# Altium schematic symbol library kmilo17pet-TI_LDO_400_7500.SchLib: 1409 symbols (part 8 of 60)
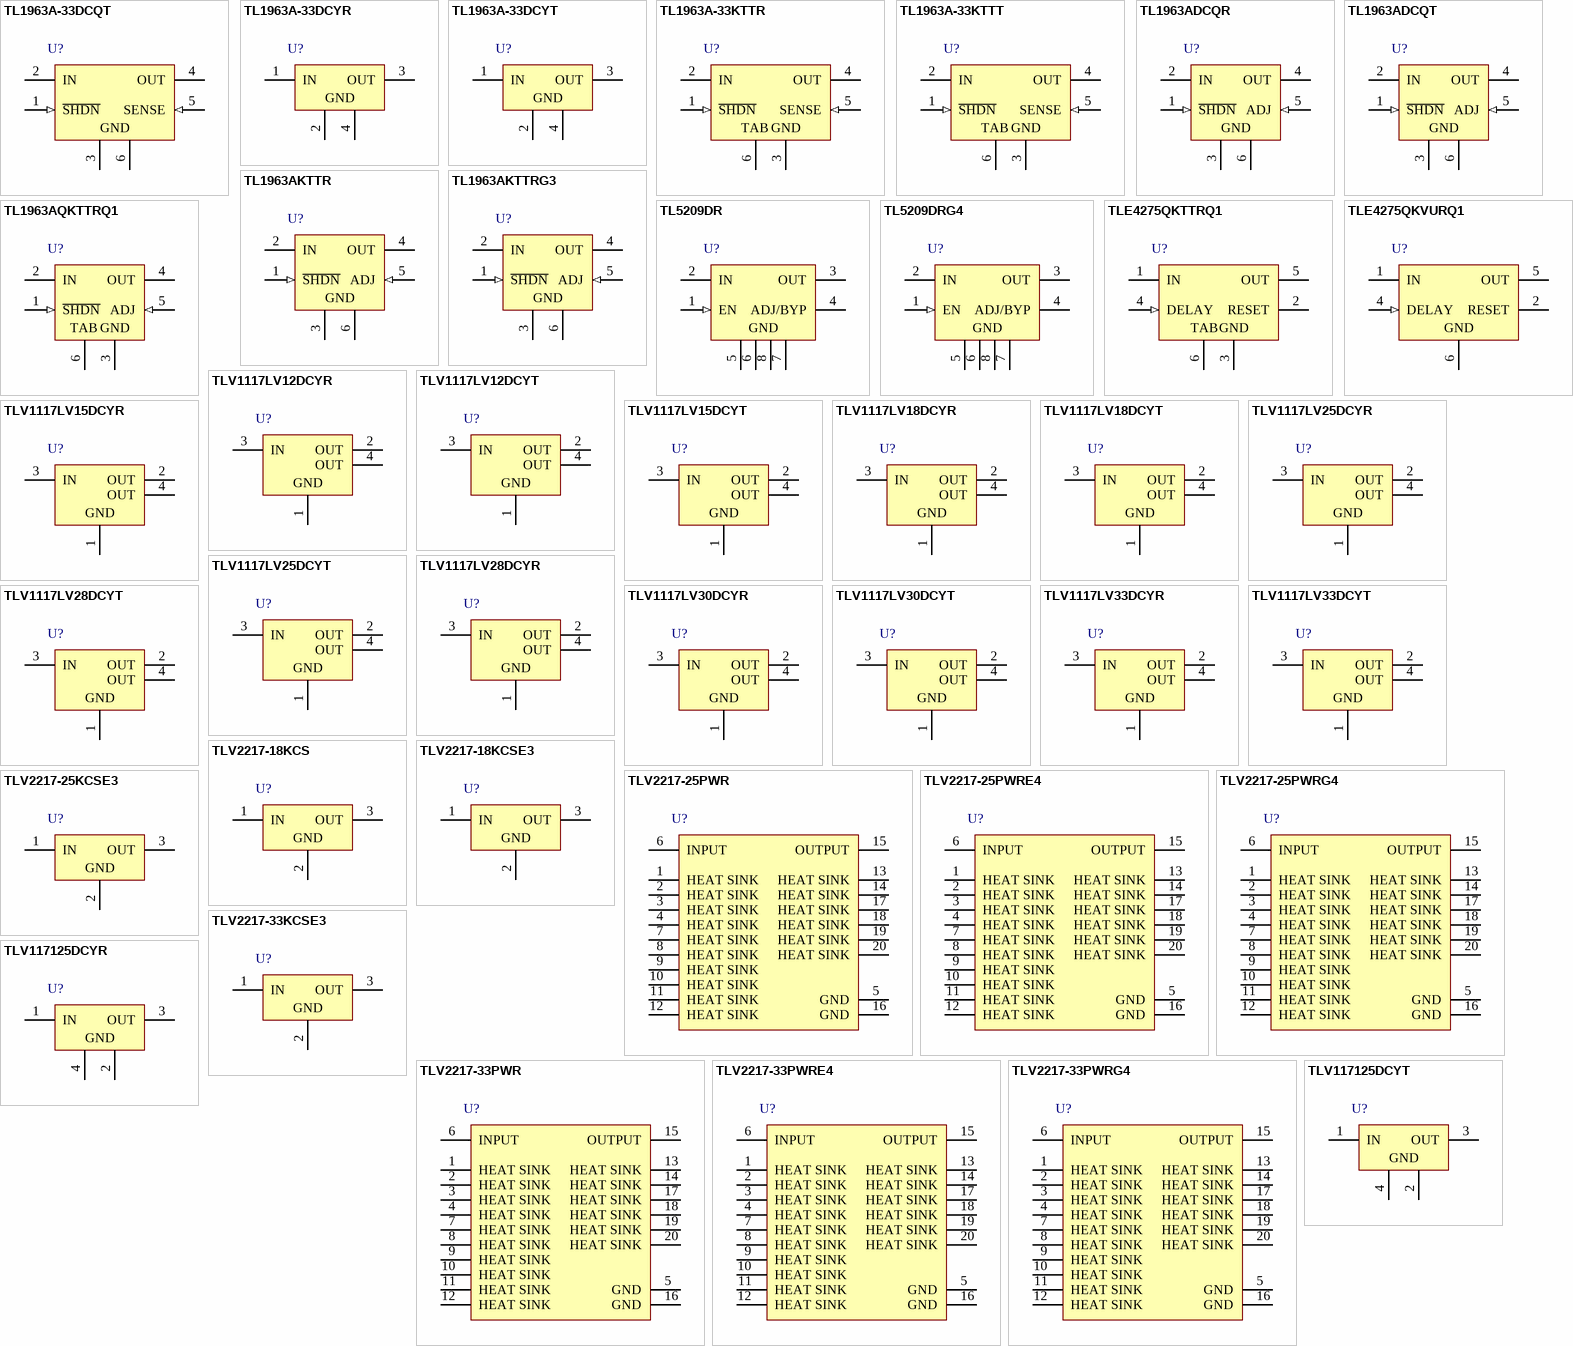
[diagram p57: symbols TL1963A-33DCQT to TLV117125DCYT]

## TL1963A-33DCYT
designator U?
Single Output Low Noise LDO, 1.5 A, Fixed 3.3 V Output, 2.1 to 20 V Input, 4-pin SOT-223 (DCY), -40 to 125 degC, Green (RoHS & no Sb/Br); Manufacturer: Texas Instruments; PartNumber: TL1963A-33DCYT; Accuracy(%): 3; Fixed Output Options(V): 3.3; Iout(Max)(A): 1.5; Iq(Typ)(mA): 1; SubFamily: Single Channel LDO; Vdo(Typ)(mV): 340; Vin(Max)(V): 20; Vin(Min)(V): 2.1; DatasheetVersion: SLVS719F; PackageVersion: 4202506/B; PackageReference: DCY4; PackageDescription: 4-Pin Plastic Small Outline, Body 3.5 x 6.5 mm, Pitch 2.3 mm; Supplier 1: Mouser; Supplier Part Number 1: N/A; Eco-Plan: Green (RoHS & no Sb/Br); Vout Adj(Max)(V): 3.3; Vout Adj(Min)(V): 3.3; Mounting Technology: Surface Mount; Code_JEDEC: TO-261; ComponentLink1Description: Manufacturer URL; ComponentLink1URL: http://www.ti.com/; ComponentLink2Description: Datasheet; ComponentLink2URL: http://www.ti.com/general/docs/lit/getliterature.tsp?genericPartNumber=TL1963A-33&fileType=pdf; ComponentLink3Description: Package Specification; ComponentLink3URL: http://www.ti.com/litv/pdf/mpds094a
footprint TI-DCY4_N (SOT223, 4-Leads, Body 6.5x3.5mm, Pitch 2.3mm, IPC Medium Density)
footprint TI-DCY4_L (SOT223, 4-Leads, Body 6.5x3.5mm, Pitch 2.3mm, IPC High Density)
footprint TI-DCY4_M (SOT223, 4-Leads, Body 6.5x3.5mm, Pitch 2.3mm, IPC Low Density)
pins: 1 IN (power) "Input. Power is supplied to the device through the IN pin. A bypass capacitor is required on this pin if the device is more than six inches away from the main input filter capacitor. In general, the output impedance of a (See Datasheet)", 2 GND (power) "Ground", 3 OUT (power) "Output. The output supplies power to the load. A minimum output capacitor (ceramic) of 10 uF is required to prevent oscillations. Larger output capacitors are required for applications with large transient loads to limit (See Datasheet)", 4 GND (power) "Ground"

## TL1963A-33KTTR
designator U?
Single Output Low Noise LDO, 1.5 A, Fixed 3.3 V Output, 2.1 to 20 V Input, 5-pin DDPAK (KTT), -40 to 125 degC, Green (RoHS & no Sb/Br); Manufacturer: Texas Instruments; PartNumber: TL1963A-33KTTR; Accuracy(%): 3; Fixed Output Options(V): 3.3; Iout(Max)(A): 1.5; Iq(Typ)(mA): 1; SubFamily: Single Channel LDO; Vdo(Typ)(mV): 340; Vin(Max)(V): 20; Vin(Min)(V): 2.1; DatasheetVersion: SLVS719F; PackageVersion: 4200577-3/F; PackageReference: KTT5; PackageDescription: 3-Pin Plastic Flange Mount, Body 10.16 x 10.34 mm, Pitch 1.7 mm; Supplier 1: Digi-Key; Supplier Part Number 1: 296-24758-2-ND; Supplier 2: Digi-Key; Supplier Part Number 2: 296-24758-1-ND; Supplier 3: Digi-Key; Supplier Part Number 3: 296-24758-6-ND; Supplier 4: Farnell; Supplier Part Number 4: 1754274; Supplier 5: Newark; Supplier Part Number 5: 33R2189; Supplier 6: Mouser; Supplier Part Number 6: 595-TL1963A-33KTTR; Eco-Plan: Green (RoHS & no Sb/Br); Vout Adj(Max)(V): 3.3; Vout Adj(Min)(V): 3.3; Mounting Technology: Surface Mount; Code_JEDEC: TO-263; ComponentLink1Description: Manufacturer URL; ComponentLink1URL: http://www.ti.com/; ComponentLink2Description: Datasheet; ComponentLink2URL: http://www.ti.com/general/docs/lit/getliterature.tsp?genericPartNumber=TL1963A-33&fileType=pdf; ComponentLink3Description: Package Specification; ComponentLink3URL: http://www.ti.com/litv/pdf/mpsf007e
footprint TI-KTT5_N (DPAK, 5-Leads, Body 10.16x8.925mm, Pitch 1.7mm, IPC Medium Density)
footprint TI-KTT5_L (DPAK, 5-Leads, Body 10.16x8.925mm, Pitch 1.7mm, IPC High Density)
footprint TI-KTT5_M (DPAK, 5-Leads, Body 10.16x8.925mm, Pitch 1.7mm, IPC Low Density)
pins: 1 ~{SHDN} (in) "Shutdown. S\H\D\N\ is used to put the TPS7A45xx regulators into a low-power shutdown state. The output is off when S\H\D\N\ is pulled low. S\H\D\N\ can be driven by 5-V logic, 3-V logic or open-collector logic with a pullup (See Datasheet)", 2 IN (power) "Input. Power is supplied to the device through IN. A bypass capacitor is required on this pin if the device is more than six inches away from the main input filter capacitor. In general, the output impedance of a battery (See Datasheet)", 3 GND (power) "Ground", 4 OUT (power) "Output. The output supplies power to the load. A minimum output capacitor (ceramic) of 10 uF is required to prevent oscillations. Larger output capacitors are required for applications with large transient loads to limit (See Datasheet)", 5 SENSE (in) "Sense. For fixed-voltage versions (TPS7A4515, TPS7A4518, TPS7A4525, and TPS7A4533), SENSE is the input to the error amplifier. Optimum regulation is obtained at the point where SENSE is connected to the OUT pin of the (See Datasheet)", 6 TAB (power) "For the KTT package, the exposed thermal pad is connected to GND and must be soldered to the PCB for rated thermal performance."

## TL1963A-33KTTT
designator U?
Single Output Low Noise LDO, 1.5 A, Fixed 3.3 V Output, 2.1 to 20 V Input, 5-pin DDPAK (KTT), -40 to 125 degC; Manufacturer: Texas Instruments; PartNumber: TL1963A-33KTTT; Accuracy(%): 3; Fixed Output Options(V): 3.3; Iout(Max)(A): 1.5; Iq(Typ)(mA): 1; SubFamily: Single Channel LDO; Vdo(Typ)(mV): 340; Vin(Max)(V): 20; Vin(Min)(V): 2.1; DatasheetVersion: SLVS719F; PackageVersion: 4200577-3/F; PackageReference: KTT5; PackageDescription: 3-Pin Plastic Flange Mount, Body 10.16 x 10.34 mm, Pitch 1.7 mm; Supplier 1: Mouser; Supplier Part Number 1: N/A; Vout Adj(Max)(V): 3.3; Vout Adj(Min)(V): 3.3; Mounting Technology: Surface Mount; Code_JEDEC: TO-263; ComponentLink1Description: Manufacturer URL; ComponentLink1URL: http://www.ti.com/; ComponentLink2Description: Datasheet; ComponentLink2URL: http://www.ti.com/general/docs/lit/getliterature.tsp?genericPartNumber=TL1963A-33&fileType=pdf; ComponentLink3Description: Package Specification; ComponentLink3URL: http://www.ti.com/litv/pdf/mpsf007e
footprint TI-KTT5_N (DPAK, 5-Leads, Body 10.16x8.925mm, Pitch 1.7mm, IPC Medium Density)
footprint TI-KTT5_L (DPAK, 5-Leads, Body 10.16x8.925mm, Pitch 1.7mm, IPC High Density)
footprint TI-KTT5_M (DPAK, 5-Leads, Body 10.16x8.925mm, Pitch 1.7mm, IPC Low Density)
pins: 1 ~{SHDN} (in) "Shutdown. S\H\D\N\ is used to put the TPS7A45xx regulators into a low-power shutdown state. The output is off when S\H\D\N\ is pulled low. S\H\D\N\ can be driven by 5-V logic, 3-V logic or open-collector logic with a pullup (See Datasheet)", 2 IN (power) "Input. Power is supplied to the device through IN. A bypass capacitor is required on this pin if the device is more than six inches away from the main input filter capacitor. In general, the output impedance of a battery (See Datasheet)", 3 GND (power) "Ground", 4 OUT (power) "Output. The output supplies power to the load. A minimum output capacitor (ceramic) of 10 uF is required to prevent oscillations. Larger output capacitors are required for applications with large transient loads to limit (See Datasheet)", 5 SENSE (in) "Sense. For fixed-voltage versions (TPS7A4515, TPS7A4518, TPS7A4525, and TPS7A4533), SENSE is the input to the error amplifier. Optimum regulation is obtained at the point where SENSE is connected to the OUT pin of the (See Datasheet)", 6 TAB (power) "For the KTT package, the exposed thermal pad is connected to GND and must be soldered to the PCB for rated thermal performance."

## TL1963ADCQR
designator U?
Single Output Fast Transient Response LDO, 1.5 A, Adjustable 1.21 to 20 V Output, 2.1 to 20 V Input, 6-pin SOT-223 (DCQ), -40 to 125 degC, Green (RoHS & no Sb/Br); Manufacturer: Texas Instruments; PartNumber: TL1963ADCQR; Iout(Max)(A): 1.5; Iq(Typ)(mA): 1; SubFamily: Single Channel LDO; Vdo(Typ)(mV): 340; Vin(Max)(V): 20; Vin(Min)(V): 2.1; Vout Adj(Min)(V): 1.21; DatasheetVersion: SLVS719F; PackageVersion: 4202109/D; PackageReference: DCQ6; PackageDescription: 6-Pin Plastic Small Outline, Body 3.5 x 6.5 mm, Pitch 1.27 mm; Supplier 1: Digi-Key; Supplier Part Number 1: 296-25119-2-ND; Supplier 2: Digi-Key; Supplier Part Number 2: 296-25119-1-ND; Supplier 3: Digi-Key; Supplier Part Number 3: 296-25119-6-ND; Supplier 4: Newark; Supplier Part Number 4: 94T5084; Supplier 5: Newark; Supplier Part Number 5: 09R6514; Supplier 6: Mouser; Supplier Part Number 6: 595-TL1963ADCQR; Eco-Plan: Green (RoHS & no Sb/Br); Vout Adj(Max)(V): 20; Mounting Technology: Surface Mount; ComponentLink1Description: Manufacturer URL; ComponentLink1URL: http://www.ti.com/; ComponentLink2Description: Datasheet; ComponentLink2URL: http://www.ti.com/general/docs/lit/getliterature.tsp?genericPartNumber=TL1963A&fileType=pdf; ComponentLink3Description: Package Specification; ComponentLink3URL: http://www.ti.com/litv/pdf/mpds098c
footprint TI-DCQ6_N (SOT223, 6-Leads, Body 6.5x3.5mm, Pitch 1.27mm, IPC Medium Density)
footprint TI-DCQ6_L (SOT223, 6-Leads, Body 6.5x3.5mm, Pitch 1.27mm, IPC High Density)
footprint TI-DCQ6_M (SOT223, 6-Leads, Body 6.5x3.5mm, Pitch 1.27mm, IPC Low Density)
pins: 1 ~{SHDN} (in) "Shutdown. The S\H\D\N\ pin is used to put the TL1963A-xx regulators into a low-power shutdown state. The output is off when the S\H\D\N\ pin is pulled low. The S\H\D\N\ pin can be driven either by 5-V logic or open-collector (See Datasheet)", 2 IN (power) "Input. Power is supplied to the device through the IN pin. A bypass capacitor is required on this pin if the device is more than six inches away from the main input filter capacitor. In general, the output impedance of a (See Datasheet)", 3 GND (power) "Ground.", 4 OUT (power) "Output. The output supplies power to the load. A minimum output capacitor (ceramic) of 10 µF is required to prevent oscillations. Larger output capacitors are required for applications with large transient loads to limit (See Datasheet)", 5 ADJ (in) "Adjust. For the adjustable TL1963A, this is the input to the error amplifier. This pin is clamped internally to +/-7 V. It has a bias current of 3 µA that flows into the pin. The ADJ pin voltage is 1.21 V referenced to (See Datasheet)", 6 GND (power) "Ground."

## TL1963ADCQT
designator U?
Single Output Fast Transient Response LDO, 1.5 A, Adjustable 1.21 to 20 V Output, 2.1 to 20 V Input, 6-pin SOT-223 (DCQ), -40 to 125 degC, Green (RoHS & no Sb/Br); Manufacturer: Texas Instruments; PartNumber: TL1963ADCQT; Iout(Max)(A): 1.5; Iq(Typ)(mA): 1; SubFamily: Single Channel LDO; Vdo(Typ)(mV): 340; Vin(Max)(V): 20; Vin(Min)(V): 2.1; Vout Adj(Min)(V): 1.21; DatasheetVersion: SLVS719F; PackageVersion: 4202109/D; PackageReference: DCQ6; PackageDescription: 6-Pin Plastic Small Outline, Body 3.5 x 6.5 mm, Pitch 1.27 mm; Supplier 1: Digi-Key; Supplier Part Number 1: 296-32343-2-ND; Supplier 2: Digi-Key; Supplier Part Number 2: 296-32343-1-ND; Supplier 3: Digi-Key; Supplier Part Number 3: 296-32343-6-ND; Supplier 4: Newark; Supplier Part Number 4: 55R7473; Supplier 5: Mouser; Supplier Part Number 5: 595-TL1963ADCQT; Eco-Plan: Green (RoHS & no Sb/Br); Vout Adj(Max)(V): 20; Mounting Technology: Surface Mount; ComponentLink1Description: Manufacturer URL; ComponentLink1URL: http://www.ti.com/; ComponentLink2Description: Datasheet; ComponentLink2URL: http://www.ti.com/general/docs/lit/getliterature.tsp?genericPartNumber=TL1963A&fileType=pdf; ComponentLink3Description: Package Specification; ComponentLink3URL: http://www.ti.com/litv/pdf/mpds098c
footprint TI-DCQ6_N (SOT223, 6-Leads, Body 6.5x3.5mm, Pitch 1.27mm, IPC Medium Density)
footprint TI-DCQ6_L (SOT223, 6-Leads, Body 6.5x3.5mm, Pitch 1.27mm, IPC High Density)
footprint TI-DCQ6_M (SOT223, 6-Leads, Body 6.5x3.5mm, Pitch 1.27mm, IPC Low Density)
pins: 1 ~{SHDN} (in) "Shutdown. The S\H\D\N\ pin is used to put the TL1963A-xx regulators into a low-power shutdown state. The output is off when the S\H\D\N\ pin is pulled low. The S\H\D\N\ pin can be driven either by 5-V logic or open-collector (See Datasheet)", 2 IN (power) "Input. Power is supplied to the device through the IN pin. A bypass capacitor is required on this pin if the device is more than six inches away from the main input filter capacitor. In general, the output impedance of a (See Datasheet)", 3 GND (power) "Ground.", 4 OUT (power) "Output. The output supplies power to the load. A minimum output capacitor (ceramic) of 10 µF is required to prevent oscillations. Larger output capacitors are required for applications with large transient loads to limit (See Datasheet)", 5 ADJ (in) "Adjust. For the adjustable TL1963A, this is the input to the error amplifier. This pin is clamped internally to +/-7 V. It has a bias current of 3 µA that flows into the pin. The ADJ pin voltage is 1.21 V referenced to (See Datasheet)", 6 GND (power) "Ground."

## TL1963AKTTR
designator U?
Single Output Fast Transient Response LDO, 1.5 A, Adjustable 1.21 to 20 V Output, 2.1 to 20 V Input, 5-pin DDPAK (KTT), -40 to 125 degC, Green (RoHS & no Sb/Br); Manufacturer: Texas Instruments; PartNumber: TL1963AKTTR; Iout(Max)(A): 1.5; Iq(Typ)(mA): 1; SubFamily: Single Channel LDO; Vdo(Typ)(mV): 340; Vin(Max)(V): 20; Vin(Min)(V): 2.1; Vout Adj(Min)(V): 1.21; DatasheetVersion: SLVS719F; PackageVersion: 4200577-3/F; PackageReference: KTT5; PackageDescription: 3-Pin Plastic Flange Mount, Body 10.16 x 10.34 mm, Pitch 1.7 mm; Supplier 1: Digi-Key; Supplier Part Number 1: 296-24759-2-ND; Supplier 2: Digi-Key; Supplier Part Number 2: 296-24759-1-ND; Supplier 3: Digi-Key; Supplier Part Number 3: 296-24759-6-ND; Supplier 4: Newark; Supplier Part Number 4: 33R2190; Supplier 5: Mouser; Supplier Part Number 5: 595-TL1963AKTTR; Eco-Plan: Green (RoHS & no Sb/Br); Vout Adj(Max)(V): 20; Mounting Technology: Surface Mount; Code_JEDEC: TO-263; ComponentLink1Description: Manufacturer URL; ComponentLink1URL: http://www.ti.com/; ComponentLink2Description: Datasheet; ComponentLink2URL: http://www.ti.com/general/docs/lit/getliterature.tsp?genericPartNumber=TL1963A&fileType=pdf; ComponentLink3Description: Package Specification; ComponentLink3URL: http://www.ti.com/litv/pdf/mpsf007e
footprint TI-KTT5_N (DPAK, 5-Leads, Body 10.16x8.925mm, Pitch 1.7mm, IPC Medium Density)
footprint TI-KTT5_L (DPAK, 5-Leads, Body 10.16x8.925mm, Pitch 1.7mm, IPC High Density)
footprint TI-KTT5_M (DPAK, 5-Leads, Body 10.16x8.925mm, Pitch 1.7mm, IPC Low Density)
pins: 1 ~{SHDN} (in) "Shutdown. The S\H\D\N\ pin is used to put the TL1963A-xx regulators into a low-power shutdown state. The output is off when the S\H\D\N\ pin is pulled low. The S\H\D\N\ pin can be driven either by 5-V logic or open-collector (See Datasheet)", 2 IN (power) "Input. Power is supplied to the device through the IN pin. A bypass capacitor is required on this pin if the device is more than six inches away from the main input filter capacitor. In general, the output impedance of a (See Datasheet)", 3 GND (power) "Ground.", 4 OUT (power) "Output. The output supplies power to the load. A minimum output capacitor (ceramic) of 10 µF is required to prevent oscillations. Larger output capacitors are required for applications with large transient loads to limit (See Datasheet)", 5 ADJ (in) "Adjust. For the adjustable TL1963A, this is the input to the error amplifier. This pin is clamped internally to +/-7 V. It has a bias current of 3 µA that flows into the pin. The ADJ pin voltage is 1.21 V referenced to (See Datasheet)", 6 GND (power) "Ground."

## TL1963AKTTRG3
designator U?
Single Output Fast Transient Response LDO, 1.5 A, Adjustable 1.21 to 20 V Output, 2.1 to 20 V Input, 5-pin DDPAK (KTT), -40 to 125 degC, Green (RoHS & no Sb/Br); Manufacturer: Texas Instruments; PartNumber: TL1963AKTTRG3; Iout(Max)(A): 1.5; Iq(Typ)(mA): 1; SubFamily: Single Channel LDO; Vdo(Typ)(mV): 340; Vin(Max)(V): 20; Vin(Min)(V): 2.1; Vout Adj(Min)(V): 1.21; DatasheetVersion: SLVS719F; PackageVersion: 4200577-3/F; PackageReference: KTT5; PackageDescription: 3-Pin Plastic Flange Mount, Body 10.16 x 10.34 mm, Pitch 1.7 mm; Supplier 1: Digi-Key; Supplier Part Number 1: TL1963AKTTRG3-ND; Supplier 2: Newark; Supplier Part Number 2: 03P5047; Supplier 3: Mouser; Supplier Part Number 3: 595-TL1963AKTTRG3; Eco-Plan: Green (RoHS & no Sb/Br); Vout Adj(Max)(V): 20; Mounting Technology: Surface Mount; Code_JEDEC: TO-263; ComponentLink1Description: Manufacturer URL; ComponentLink1URL: http://www.ti.com/; ComponentLink2Description: Datasheet; ComponentLink2URL: http://www.ti.com/general/docs/lit/getliterature.tsp?genericPartNumber=TL1963A&fileType=pdf; ComponentLink3Description: Package Specification; ComponentLink3URL: http://www.ti.com/litv/pdf/mpsf007e
footprint TI-KTT5_N (DPAK, 5-Leads, Body 10.16x8.925mm, Pitch 1.7mm, IPC Medium Density)
footprint TI-KTT5_L (DPAK, 5-Leads, Body 10.16x8.925mm, Pitch 1.7mm, IPC High Density)
footprint TI-KTT5_M (DPAK, 5-Leads, Body 10.16x8.925mm, Pitch 1.7mm, IPC Low Density)
pins: 1 ~{SHDN} (in) "Shutdown. The S\H\D\N\ pin is used to put the TL1963A-xx regulators into a low-power shutdown state. The output is off when the S\H\D\N\ pin is pulled low. The S\H\D\N\ pin can be driven either by 5-V logic or open-collector (See Datasheet)", 2 IN (power) "Input. Power is supplied to the device through the IN pin. A bypass capacitor is required on this pin if the device is more than six inches away from the main input filter capacitor. In general, the output impedance of a (See Datasheet)", 3 GND (power) "Ground.", 4 OUT (power) "Output. The output supplies power to the load. A minimum output capacitor (ceramic) of 10 µF is required to prevent oscillations. Larger output capacitors are required for applications with large transient loads to limit (See Datasheet)", 5 ADJ (in) "Adjust. For the adjustable TL1963A, this is the input to the error amplifier. This pin is clamped internally to +/-7 V. It has a bias current of 3 µA that flows into the pin. The ADJ pin voltage is 1.21 V referenced to (See Datasheet)", 6 GND (power) "Ground."

## TL1963AQKTTRQ1
designator U?
Single Output Fast Transient Response LDO, 1.5 A, Adjustable 1.21 to 20 V Output, 2.1 to 20 V Input, 5-pin DDPAK (KTT), -40 to 125 degC, Green (RoHS & no Sb/Br); Manufacturer: Texas Instruments; PartNumber: TL1963AQKTTRQ1; Iout(Max)(A): 1.5; Iq(Typ)(mA): 1; SubFamily: Single Channel LDO; Vdo(Typ)(mV): 340; Vin(Max)(V): 20; Vin(Min)(V): 2.1; Vout Adj(Min)(V): 1.21; DatasheetVersion: SLVSA79; PackageVersion: 4200577-3/F; PackageReference: KTT5; PackageDescription: 3-Pin Plastic Flange Mount, Body 10.16 x 10.34 mm, Pitch 1.7 mm; Supplier 1: Digi-Key; Supplier Part Number 1: 296-27440-2-ND; Supplier 2: Digi-Key; Supplier Part Number 2: 296-27440-1-ND; Supplier 3: Digi-Key; Supplier Part Number 3: 296-27440-6-ND; Supplier 4: Newark; Supplier Part Number 4: 74R6604; Supplier 5: Mouser; Supplier Part Number 5: 595-TL1963AQKTTRQ1; Eco-Plan: Green (RoHS & no Sb/Br); Vout Adj(Max)(V): 20; Mounting Technology: Surface Mount; Code_JEDEC: TO-263; ComponentLink1Description: Manufacturer URL; ComponentLink1URL: http://www.ti.com/; ComponentLink2Description: Datasheet; ComponentLink2URL: http://www.ti.com/general/docs/lit/getliterature.tsp?genericPartNumber=TL1963A-Q1&fileType=pdf; ComponentLink3Description: Package Specification; ComponentLink3URL: http://www.ti.com/litv/pdf/mpsf007e
footprint TI-KTT5_N (DPAK, 5-Leads, Body 10.16x8.925mm, Pitch 1.7mm, IPC Medium Density)
footprint TI-KTT5_L (DPAK, 5-Leads, Body 10.16x8.925mm, Pitch 1.7mm, IPC High Density)
footprint TI-KTT5_M (DPAK, 5-Leads, Body 10.16x8.925mm, Pitch 1.7mm, IPC Low Density)
pins: 1 ~{SHDN} (in) "Shutdown. The S\H\D\N\ pin is used to put the TL1963A regulators into a low-power shutdown state. The output is off when the S\H\D\N\ pin is pulled low. The S\H\D\N\ pin can be driven either by 5-V logic or open-collector (See Datasheet)", 2 IN (power) "Input. Power is supplied to the device through the IN pin. A bypass capacitor is required on this pin if the device is more than six inches away from the main input filter capacitor. In general, the output impedance of a (See Datasheet)", 3 GND (power) "Ground", 4 OUT (power) "Output. The output supplies power to the load. A minimum output capacitor (ceramic) of 10 uF is required to prevent oscillations. Larger output capacitors are required for applications with large transient loads to limit (See Datasheet)", 5 ADJ (in) "Adjust. For the adjustable TL1963A, this is the input to the error amplifier. This pin is clamped internally to +/-7 V. It has a bias current of 3 uA that flows into the pin. The ADJ pin voltage is 1.21 V referenced to (See Datasheet)", 6 TAB (power) "For the KTT package,the exposed thermal pad is connected to ground and must be soldered to the PCB for rated thermal performance."

## TL5209DR
designator U?
Single Output Low Noise LDO, 500 mA, Adjustable 1.3 to 6.5 V Output, 2.5 to 16 V Input, 8-pin SOIC (D), -40 to 125 degC, Green (RoHS & no Sb/Br); Manufacturer: Texas Instruments; PartNumber: TL5209DR; Accuracy(%): 2; Iout(Max)(A): 0.5; Iq(Typ)(mA): 8; Rating: Catalog; SubFamily: Single Channel LDO; Vdo(Typ)(mV): 500; Vin(Max)(V): 16; Vin(Min)(V): 2.5; Vout Adj(Max)(V): 6.5; DatasheetVersion: SLVS581A; PackageVersion: 4040047-3/M; PackageReference: D8; PackageDescription: 8-Pin Plastic Small Outline, Body 4.9 x 3.9 mm, Pitch 1.27 mm; Supplier 1: Digi-Key; Supplier Part Number 1: 296-21569-2-ND; Supplier 2: Digi-Key; Supplier Part Number 2: 296-21569-1-ND; Supplier 3: Digi-Key; Supplier Part Number 3: 296-21569-6-ND; Supplier 4: Farnell; Supplier Part Number 4: 1535670; Supplier 5: Newark; Supplier Part Number 5: 20M5842; Supplier 6: Mouser; Supplier Part Number 6: 595-TL5209DR; Eco-Plan: Green (RoHS & no Sb/Br); Vout Adj(Min)(V): 2.5; Mounting Technology: Surface Mount; Code_JEDEC: MS-012; ComponentLink1Description: Manufacturer URL; ComponentLink1URL: http://www.ti.com/; ComponentLink2Description: Datasheet; ComponentLink2URL: http://www.ti.com/general/docs/lit/getliterature.tsp?genericPartNumber=TL5209&fileType=pdf; ComponentLink3Description: Package Specification; ComponentLink3URL: http://www.ti.com/litv/pdf/msoi002j; ComponentLink4Description: URL Link1; ComponentLink4URL: Samples URL:http://www.ti.com/product/tl5209#samples
footprint TI-D8_N (SOIC, 8-Leads, Body 4.9x3.9mm, Pitch 1.27mm, IPC Medium Density)
footprint TI-D8_L (SOIC, 8-Leads, Body 4.9x3.9mm, Pitch 1.27mm, IPC High Density)
footprint TI-D8_M (SOIC, 8-Leads, Body 4.9x3.9mm, Pitch 1.27mm, IPC Low Density)
pins: 1 EN (in), 2 IN (power), 3 OUT (power), 4 ADJ/BYP, 5 GND (power), 6 GND (power), 7 GND (power), 8 GND (power)

## TL5209DRG4
designator U?
Single Output Low Noise LDO, 500 mA, Adjustable 1.3 to 6.5 V Output, 2.5 to 16 V Input, 8-pin SOIC (D), -40 to 125 degC, Green (RoHS & no Sb/Br); Manufacturer: Texas Instruments; PartNumber: TL5209DRG4; Accuracy(%): 2; Iout(Max)(A): 0.5; Iq(Typ)(mA): 8; Rating: Catalog; SubFamily: Single Channel LDO; Vdo(Typ)(mV): 500; Vin(Max)(V): 16; Vin(Min)(V): 2.5; Vout Adj(Max)(V): 6.5; DatasheetVersion: SLVS581A; PackageVersion: 4040047-3/M; PackageReference: D8; PackageDescription: 8-Pin Plastic Small Outline, Body 4.9 x 3.9 mm, Pitch 1.27 mm; Supplier 1: Digi-Key; Supplier Part Number 1: TL5209DRG4-ND; Supplier 2: Mouser; Supplier Part Number 2: 595-TL5209DRG4; Eco-Plan: Green (RoHS & no Sb/Br); Vout Adj(Min)(V): 2.5; Mounting Technology: Surface Mount; Code_JEDEC: MS-012; ComponentLink1Description: Manufacturer URL; ComponentLink1URL: http://www.ti.com/; ComponentLink2Description: Datasheet; ComponentLink2URL: http://www.ti.com/general/docs/lit/getliterature.tsp?genericPartNumber=TL5209&fileType=pdf; ComponentLink3Description: Package Specification; ComponentLink3URL: http://www.ti.com/litv/pdf/msoi002j; ComponentLink4Description: URL Link1; ComponentLink4URL: Samples URL:http://www.ti.com/product/tl5209#samples
footprint TI-D8_N (SOIC, 8-Leads, Body 4.9x3.9mm, Pitch 1.27mm, IPC Medium Density)
footprint TI-D8_L (SOIC, 8-Leads, Body 4.9x3.9mm, Pitch 1.27mm, IPC High Density)
footprint TI-D8_M (SOIC, 8-Leads, Body 4.9x3.9mm, Pitch 1.27mm, IPC Low Density)
pins: 1 EN (in), 2 IN (power), 3 OUT (power), 4 ADJ/BYP, 5 GND (power), 6 GND (power), 7 GND (power), 8 GND (power)

## TLE4275QKTTRQ1
designator U?
Single Output Automotive LDO, 700 mA, Fixed 5 V Output, 5.5 to 42 V Input, 5-pin DDPAK (KTT), -40 to 125 degC, Green (RoHS & no Sb/Br); Manufacturer: Texas Instruments; PartNumber: TLE4275QKTTRQ1; Accuracy(%): 2; Fixed Output Options(V): 5; Iout(Max)(A): 0.7; SubFamily: Single Channel LDO; Vdo(Typ)(mV): 250; Vin(Max)(V): 42; Vin(Min)(V): 5.5; DatasheetVersion: SLVS647F; PackageVersion: 4200577-3/F; PackageReference: KTT5; PackageDescription: 3-Pin Plastic Flange Mount, Body 10.16 x 10.34 mm, Pitch 1.7 mm; Supplier 1: Digi-Key; Supplier Part Number 1: 296-28001-2-ND; Supplier 2: Digi-Key; Supplier Part Number 2: 296-28001-1-ND; Supplier 3: Digi-Key; Supplier Part Number 3: 296-28001-6-ND; Supplier 4: Newark; Supplier Part Number 4: 14M2306; Supplier 5: Mouser; Supplier Part Number 5: 595-TLE4275QKTTRQ1; Eco-Plan: Green (RoHS & no Sb/Br); Iq(Typ)(mA): 5; Vout Adj(Max)(V): 5; Vout Adj(Min)(V): 5; Mounting Technology: Surface Mount; Code_JEDEC: TO-263; ComponentLink1Description: Manufacturer URL; ComponentLink1URL: http://www.ti.com/; ComponentLink2Description: Datasheet; ComponentLink2URL: http://www.ti.com/general/docs/lit/getliterature.tsp?genericPartNumber=TLE4275-Q1&fileType=pdf; ComponentLink3Description: Package Specification; ComponentLink3URL: http://www.ti.com/litv/pdf/mpsf007e
footprint TI-KTT5_N (DPAK, 5-Leads, Body 10.16x8.925mm, Pitch 1.7mm, IPC Medium Density)
footprint TI-KTT5_L (DPAK, 5-Leads, Body 10.16x8.925mm, Pitch 1.7mm, IPC High Density)
footprint TI-KTT5_M (DPAK, 5-Leads, Body 10.16x8.925mm, Pitch 1.7mm, IPC Low Density)
pins: 1 IN (power) "Input. Connect to ground as close to device as possible, through a ceramic capacitor.", 2 RESET (oc) "Reset output. Open-collector output", 3 GND (power) "Ground. Internally connected to heatsink", 4 DELAY (in) "Reset delay. Connect to ground with a capacitor to set delay time.", 5 OUT (power) "Output. Connect to ground with >=22-uF capacitor, ESR < 5 Ohm at 10 kHz.", 6 TAB (power)

## TLE4275QKVURQ1
designator U?
Single Output Automotive LDO, 700 mA, Fixed 5 V Output, 5.5 to 42 V Input, 5-pin PFM (KVU), -40 to 125 degC, Green (RoHS & no Sb/Br); Manufacturer: Texas Instruments; PartNumber: TLE4275QKVURQ1; Accuracy(%): 2; Fixed Output Options(V): 5; Iout(Max)(A): 0.7; SubFamily: Single Channel LDO; Vdo(Typ)(mV): 250; Vin(Max)(V): 42; Vin(Min)(V): 5.5; DatasheetVersion: SLVS647F; PackageVersion: 4205521-3/D; PackageReference: KVU5; PackageDescription: 5-Pin Plastic Flange Mount, Body 6.1 x 6.6 mm, Pitch 1.14 mm; Supplier 1: Digi-Key; Supplier Part Number 1: 296-25228-2-ND; Supplier 2: Digi-Key; Supplier Part Number 2: 296-25228-1-ND; Supplier 3: Digi-Key; Supplier Part Number 3: 296-25228-6-ND; Supplier 4: Newark; Supplier Part Number 4: 55R7455; Supplier 5: Mouser; Supplier Part Number 5: 595-TLE4275QKVURQ1; Eco-Plan: Green (RoHS & no Sb/Br); Iq(Typ)(mA): 5; Vout Adj(Max)(V): 5; Vout Adj(Min)(V): 5; Mounting Technology: Surface Mount; Code_JEDEC: TO-252; ComponentLink1Description: Manufacturer URL; ComponentLink1URL: http://www.ti.com/; ComponentLink2Description: Datasheet; ComponentLink2URL: http://www.ti.com/general/docs/lit/getliterature.tsp?genericPartNumber=TLE4275-Q1&fileType=pdf; ComponentLink3Description: Package Specification; ComponentLink3URL: http://www.ti.com/lit/ml/mpsf019/mpsf019.pdf
footprint TI-KVU5_N (DPAK, 5-Leads, Body 6.6x6.095mm, Pitch 1.14mm, IPC Medium Density)
footprint TI-KVU5_L (DPAK, 5-Leads, Body 6.6x6.095mm, Pitch 1.14mm, IPC High Density)
footprint TI-KVU5_M (DPAK, 5-Leads, Body 6.6x6.095mm, Pitch 1.14mm, IPC Low Density)
pins: 1 IN (power) "Input. Connect to ground as close to device as possible, through a ceramic capacitor.", 2 RESET (oc) "Reset output. Open-collector output", 4 DELAY (in) "Reset delay. Connect to ground with a capacitor to set delay time.", 5 OUT (power) "Output. Connect to ground with >=22-uF capacitor, ESR < 5 Ohm at 10 kHz.", 6 GND (power) "Ground"

## TLV1117LV12DCYR
designator U?
Single Output LDO, 1 A, Fixed 1.2 V Output, 2 to 5.5 V Input, 4-pin SOT-223 (DCY), -40 to 125 degC, Green (RoHS & no Sb/Br); Manufacturer: Texas Instruments; PartNumber: TLV1117LV12DCYR; Accuracy(%): 2; Fixed Output Options(V): 1.2; Iout(Max)(A): 1; Iq(Typ)(mA): 0.05; SubFamily: Single Channel LDO; Vdo(Typ)(mV): 1200; Vin(Max)(V): 5.5; DatasheetVersion: SBVS160A; PackageVersion: 4202506/B; PackageReference: DCY4; PackageDescription: 4-Pin Plastic Small Outline, Body 3.5 x 6.5 mm, Pitch 2.3 mm; Supplier 1: Digi-Key; Supplier Part Number 1: 296-28776-2-ND; Supplier 2: Digi-Key; Supplier Part Number 2: 296-28776-1-ND; Supplier 3: Digi-Key; Supplier Part Number 3: 296-28776-6-ND; Supplier 4: Newark; Supplier Part Number 4: 48T4640; Supplier 5: Mouser; Supplier Part Number 5: 595-TLV1117LV12DCYR; Eco-Plan: Green (RoHS & no Sb/Br); Vin(Min)(V): 2; Vout Adj(Max)(V): 1.2; Vout Adj(Min)(V): 1.2; Mounting Technology: Surface Mount; Code_JEDEC: TO-261; ComponentLink1Description: Manufacturer URL; ComponentLink1URL: http://www.ti.com/; ComponentLink2Description: Datasheet; ComponentLink2URL: http://www.ti.com/general/docs/lit/getliterature.tsp?genericPartNumber=TLV1117LV12&fileType=pdf; ComponentLink3Description: Package Specification; ComponentLink3URL: http://www.ti.com/litv/pdf/mpds094a
footprint TI-DCY4_N (SOT223, 4-Leads, Body 6.5x3.5mm, Pitch 2.3mm, IPC Medium Density)
footprint TI-DCY4_L (SOT223, 4-Leads, Body 6.5x3.5mm, Pitch 2.3mm, IPC High Density)
footprint TI-DCY4_M (SOT223, 4-Leads, Body 6.5x3.5mm, Pitch 2.3mm, IPC Low Density)
pins: 1 GND (power) "Ground pin", 2 OUT (power) "Regulated output voltage pin.", 3 IN (power) "Input pin.", 4 OUT (power) "Regulated output voltage pin."

## TLV1117LV12DCYT
designator U?
Single Output LDO, 1 A, Fixed 1.2 V Output, 2 to 5.5 V Input, 4-pin SOT-223 (DCY), -40 to 125 degC, Green (RoHS & no Sb/Br); Manufacturer: Texas Instruments; PartNumber: TLV1117LV12DCYT; Accuracy(%): 2; Fixed Output Options(V): 1.2; Iout(Max)(A): 1; Iq(Typ)(mA): 0.05; SubFamily: Single Channel LDO; Vdo(Typ)(mV): 1200; Vin(Max)(V): 5.5; DatasheetVersion: SBVS160A; PackageVersion: 4202506/B; PackageReference: DCY4; PackageDescription: 4-Pin Plastic Small Outline, Body 3.5 x 6.5 mm, Pitch 2.3 mm; Supplier 1: Digi-Key; Supplier Part Number 1: TLV1117LV12DCYT-ND; Supplier 2: Newark; Supplier Part Number 2: 48T4641; Supplier 3: Mouser; Supplier Part Number 3: 595-TLV1117LV12DCYT; Eco-Plan: Green (RoHS & no Sb/Br); Vin(Min)(V): 2; Vout Adj(Max)(V): 1.2; Vout Adj(Min)(V): 1.2; Mounting Technology: Surface Mount; Code_JEDEC: TO-261; ComponentLink1Description: Manufacturer URL; ComponentLink1URL: http://www.ti.com/; ComponentLink2Description: Datasheet; ComponentLink2URL: http://www.ti.com/general/docs/lit/getliterature.tsp?genericPartNumber=TLV1117LV12&fileType=pdf; ComponentLink3Description: Package Specification; ComponentLink3URL: http://www.ti.com/litv/pdf/mpds094a
footprint TI-DCY4_N (SOT223, 4-Leads, Body 6.5x3.5mm, Pitch 2.3mm, IPC Medium Density)
footprint TI-DCY4_L (SOT223, 4-Leads, Body 6.5x3.5mm, Pitch 2.3mm, IPC High Density)
footprint TI-DCY4_M (SOT223, 4-Leads, Body 6.5x3.5mm, Pitch 2.3mm, IPC Low Density)
pins: 1 GND (power) "Ground pin", 2 OUT (power) "Regulated output voltage pin.", 3 IN (power) "Input pin.", 4 OUT (power) "Regulated output voltage pin."

## TLV1117LV15DCYR
designator U?
Single Output LDO, 1 A, Fixed 1.5 V Output, 2 to 5.5 V Input, 4-pin SOT-223 (DCY), -40 to 125 degC, Green (RoHS & no Sb/Br); Manufacturer: Texas Instruments; PartNumber: TLV1117LV15DCYR; Accuracy(%): 2; Fixed Output Options(V): 1.5; Iout(Max)(A): 1; Iq(Typ)(mA): 0.05; SubFamily: Single Channel LDO; Vdo(Typ)(mV): 1200; Vin(Max)(V): 5.5; DatasheetVersion: SBVS160A; PackageVersion: 4202506/B; PackageReference: DCY4; PackageDescription: 4-Pin Plastic Small Outline, Body 3.5 x 6.5 mm, Pitch 2.3 mm; Supplier 1: Digi-Key; Supplier Part Number 1: 296-30589-2-ND; Supplier 2: Digi-Key; Supplier Part Number 2: 296-30589-1-ND; Supplier 3: Digi-Key; Supplier Part Number 3: 296-30589-6-ND; Supplier 4: Newark; Supplier Part Number 4: 27W9626; Supplier 5: Mouser; Supplier Part Number 5: 595-TLV1117LV15DCYR; Eco-Plan: Green (RoHS & no Sb/Br); Vin(Min)(V): 2; Vout Adj(Max)(V): 1.5; Vout Adj(Min)(V): 1.5; Mounting Technology: Surface Mount; Code_JEDEC: TO-261; ComponentLink1Description: Manufacturer URL; ComponentLink1URL: http://www.ti.com/; ComponentLink2Description: Datasheet; ComponentLink2URL: http://www.ti.com/general/docs/lit/getliterature.tsp?genericPartNumber=TLV1117LV15&fileType=pdf; ComponentLink3Description: Package Specification; ComponentLink3URL: http://www.ti.com/litv/pdf/mpds094a
footprint TI-DCY4_N (SOT223, 4-Leads, Body 6.5x3.5mm, Pitch 2.3mm, IPC Medium Density)
footprint TI-DCY4_L (SOT223, 4-Leads, Body 6.5x3.5mm, Pitch 2.3mm, IPC High Density)
footprint TI-DCY4_M (SOT223, 4-Leads, Body 6.5x3.5mm, Pitch 2.3mm, IPC Low Density)
pins: 1 GND (power) "Ground pin", 2 OUT (power) "Regulated output voltage pin.", 3 IN (power) "Input pin.", 4 OUT (power) "Regulated output voltage pin."

## TLV1117LV15DCYT
designator U?
Single Output LDO, 1 A, Fixed 1.5 V Output, 2 to 5.5 V Input, 4-pin SOT-223 (DCY), -40 to 125 degC, Green (RoHS & no Sb/Br); Manufacturer: Texas Instruments; PartNumber: TLV1117LV15DCYT; Accuracy(%): 2; Fixed Output Options(V): 1.5; Iout(Max)(A): 1; Iq(Typ)(mA): 0.05; SubFamily: Single Channel LDO; Vdo(Typ)(mV): 1200; Vin(Max)(V): 5.5; DatasheetVersion: SBVS160A; PackageVersion: 4202506/B; PackageReference: DCY4; PackageDescription: 4-Pin Plastic Small Outline, Body 3.5 x 6.5 mm, Pitch 2.3 mm; Supplier 1: Digi-Key; Supplier Part Number 1: 296-34847-2-ND; Supplier 2: Farnell; Supplier Part Number 2: 2214985; Supplier 3: Newark; Supplier Part Number 3: 27W9627; Supplier 4: Newark; Supplier Part Number 4: 45W6436; Supplier 5: Mouser; Supplier Part Number 5: 595-TLV1117LV15DCYT; Eco-Plan: Green (RoHS & no Sb/Br); Vin(Min)(V): 2; Vout Adj(Max)(V): 1.5; Vout Adj(Min)(V): 1.5; Mounting Technology: Surface Mount; Code_JEDEC: TO-261; ComponentLink1Description: Manufacturer URL; ComponentLink1URL: http://www.ti.com/; ComponentLink2Description: Datasheet; ComponentLink2URL: http://www.ti.com/general/docs/lit/getliterature.tsp?genericPartNumber=TLV1117LV15&fileType=pdf; ComponentLink3Description: Package Specification; ComponentLink3URL: http://www.ti.com/litv/pdf/mpds094a
footprint TI-DCY4_N (SOT223, 4-Leads, Body 6.5x3.5mm, Pitch 2.3mm, IPC Medium Density)
footprint TI-DCY4_L (SOT223, 4-Leads, Body 6.5x3.5mm, Pitch 2.3mm, IPC High Density)
footprint TI-DCY4_M (SOT223, 4-Leads, Body 6.5x3.5mm, Pitch 2.3mm, IPC Low Density)
pins: 1 GND (power) "Ground pin", 2 OUT (power) "Regulated output voltage pin.", 3 IN (power) "Input pin.", 4 OUT (power) "Regulated output voltage pin."

## TLV1117LV18DCYR
designator U?
Single Output LDO, 1 A, Fixed 1.8 V Output, 2 to 5.5 V Input, 4-pin SOT-223 (DCY), -40 to 125 degC, Green (RoHS & no Sb/Br); Manufacturer: Texas Instruments; PartNumber: TLV1117LV18DCYR; Accuracy(%): 2; Fixed Output Options(V): 1.8; Iout(Max)(A): 1; Iq(Typ)(mA): 0.05; SubFamily: Single Channel LDO; Vdo(Typ)(mV): 1200; Vin(Max)(V): 5.5; DatasheetVersion: SBVS160A; PackageVersion: 4202506/B; PackageReference: DCY4; PackageDescription: 4-Pin Plastic Small Outline, Body 3.5 x 6.5 mm, Pitch 2.3 mm; Supplier 1: Digi-Key; Supplier Part Number 1: 296-28777-2-ND; Supplier 2: Digi-Key; Supplier Part Number 2: 296-28777-1-ND; Supplier 3: Digi-Key; Supplier Part Number 3: 296-28777-6-ND; Supplier 4: Mouser; Supplier Part Number 4: 595-TLV1117LV18DCYR; Eco-Plan: Green (RoHS & no Sb/Br); Vin(Min)(V): 2; Vout Adj(Max)(V): 1.8; Vout Adj(Min)(V): 1.8; Mounting Technology: Surface Mount; Code_JEDEC: TO-261; ComponentLink1Description: Manufacturer URL; ComponentLink1URL: http://www.ti.com/; ComponentLink2Description: Datasheet; ComponentLink2URL: http://www.ti.com/general/docs/lit/getliterature.tsp?genericPartNumber=TLV1117LV18&fileType=pdf; ComponentLink3Description: Package Specification; ComponentLink3URL: http://www.ti.com/litv/pdf/mpds094a
footprint TI-DCY4_N (SOT223, 4-Leads, Body 6.5x3.5mm, Pitch 2.3mm, IPC Medium Density)
footprint TI-DCY4_L (SOT223, 4-Leads, Body 6.5x3.5mm, Pitch 2.3mm, IPC High Density)
footprint TI-DCY4_M (SOT223, 4-Leads, Body 6.5x3.5mm, Pitch 2.3mm, IPC Low Density)
pins: 1 GND (power) "Ground pin", 2 OUT (power) "Regulated output voltage pin.", 3 IN (power) "Input pin.", 4 OUT (power) "Regulated output voltage pin."

## TLV1117LV18DCYT
designator U?
Single Output LDO, 1 A, Fixed 1.8 V Output, 2 to 5.5 V Input, 4-pin SOT-223 (DCY), -40 to 125 degC, Green (RoHS & no Sb/Br); Manufacturer: Texas Instruments; PartNumber: TLV1117LV18DCYT; Accuracy(%): 2; Fixed Output Options(V): 1.8; Iout(Max)(A): 1; Iq(Typ)(mA): 0.05; SubFamily: Single Channel LDO; Vdo(Typ)(mV): 1200; Vin(Max)(V): 5.5; DatasheetVersion: SBVS160A; PackageVersion: 4202506/B; PackageReference: DCY4; PackageDescription: 4-Pin Plastic Small Outline, Body 3.5 x 6.5 mm, Pitch 2.3 mm; Supplier 1: Digi-Key; Supplier Part Number 1: TLV1117LV18DCYT-ND; Supplier 2: Mouser; Supplier Part Number 2: 595-TLV1117LV18DCYT; Eco-Plan: Green (RoHS & no Sb/Br); Vin(Min)(V): 2; Vout Adj(Max)(V): 1.8; Vout Adj(Min)(V): 1.8; Mounting Technology: Surface Mount; Code_JEDEC: TO-261; ComponentLink1Description: Manufacturer URL; ComponentLink1URL: http://www.ti.com/; ComponentLink2Description: Datasheet; ComponentLink2URL: http://www.ti.com/general/docs/lit/getliterature.tsp?genericPartNumber=TLV1117LV18&fileType=pdf; ComponentLink3Description: Package Specification; ComponentLink3URL: http://www.ti.com/litv/pdf/mpds094a
footprint TI-DCY4_N (SOT223, 4-Leads, Body 6.5x3.5mm, Pitch 2.3mm, IPC Medium Density)
footprint TI-DCY4_L (SOT223, 4-Leads, Body 6.5x3.5mm, Pitch 2.3mm, IPC High Density)
footprint TI-DCY4_M (SOT223, 4-Leads, Body 6.5x3.5mm, Pitch 2.3mm, IPC Low Density)
pins: 1 GND (power) "Ground pin", 2 OUT (power) "Regulated output voltage pin.", 3 IN (power) "Input pin.", 4 OUT (power) "Regulated output voltage pin."

## TLV1117LV25DCYR
designator U?
Single Output LDO, 1 A, Fixed 2.5 V Output, 2 to 5.5 V Input, 4-pin SOT-223 (DCY), -40 to 125 degC, Green (RoHS & no Sb/Br); Manufacturer: Texas Instruments; PartNumber: TLV1117LV25DCYR; Accuracy(%): 2; Fixed Output Options(V): 2.5; Iout(Max)(A): 1; Iq(Typ)(mA): 0.05; SubFamily: Single Channel LDO; Vdo(Typ)(mV): 1200; Vin(Max)(V): 5.5; DatasheetVersion: SBVS160A; PackageVersion: 4202506/B; PackageReference: DCY4; PackageDescription: 4-Pin Plastic Small Outline, Body 3.5 x 6.5 mm, Pitch 2.3 mm; Supplier 1: Digi-Key; Supplier Part Number 1: TLV1117LV25DCYR-ND; Supplier 2: Newark; Supplier Part Number 2: 94T1783; Supplier 3: Mouser; Supplier Part Number 3: 595-TLV1117LV25DCYR; Eco-Plan: Green (RoHS & no Sb/Br); Vin(Min)(V): 2; Vout Adj(Max)(V): 2.5; Vout Adj(Min)(V): 2.5; Mounting Technology: Surface Mount; Code_JEDEC: TO-261; ComponentLink1Description: Manufacturer URL; ComponentLink1URL: http://www.ti.com/; ComponentLink2Description: Datasheet; ComponentLink2URL: http://www.ti.com/general/docs/lit/getliterature.tsp?genericPartNumber=TLV1117LV25&fileType=pdf; ComponentLink3Description: Package Specification; ComponentLink3URL: http://www.ti.com/litv/pdf/mpds094a
footprint TI-DCY4_N (SOT223, 4-Leads, Body 6.5x3.5mm, Pitch 2.3mm, IPC Medium Density)
footprint TI-DCY4_L (SOT223, 4-Leads, Body 6.5x3.5mm, Pitch 2.3mm, IPC High Density)
footprint TI-DCY4_M (SOT223, 4-Leads, Body 6.5x3.5mm, Pitch 2.3mm, IPC Low Density)
pins: 1 GND (power) "Ground pin", 2 OUT (power) "Regulated output voltage pin.", 3 IN (power) "Input pin.", 4 OUT (power) "Regulated output voltage pin."

## TLV1117LV25DCYT
designator U?
Single Output LDO, 1 A, Fixed 2.5 V Output, 2 to 5.5 V Input, 4-pin SOT-223 (DCY), -40 to 125 degC, Green (RoHS & no Sb/Br); Manufacturer: Texas Instruments; PartNumber: TLV1117LV25DCYT; Accuracy(%): 2; Fixed Output Options(V): 2.5; Iout(Max)(A): 1; Iq(Typ)(mA): 0.05; SubFamily: Single Channel LDO; Vdo(Typ)(mV): 1200; Vin(Max)(V): 5.5; DatasheetVersion: SBVS160A; PackageVersion: 4202506/B; PackageReference: DCY4; PackageDescription: 4-Pin Plastic Small Outline, Body 3.5 x 6.5 mm, Pitch 2.3 mm; Supplier 1: Digi-Key; Supplier Part Number 1: TLV1117LV25DCYT-ND; Supplier 2: Newark; Supplier Part Number 2: 94T1784; Supplier 3: Mouser; Supplier Part Number 3: 595-TLV1117LV25DCYT; Eco-Plan: Green (RoHS & no Sb/Br); Vin(Min)(V): 2; Vout Adj(Max)(V): 2.5; Vout Adj(Min)(V): 2.5; Mounting Technology: Surface Mount; Code_JEDEC: TO-261; ComponentLink1Description: Manufacturer URL; ComponentLink1URL: http://www.ti.com/; ComponentLink2Description: Datasheet; ComponentLink2URL: http://www.ti.com/general/docs/lit/getliterature.tsp?genericPartNumber=TLV1117LV25&fileType=pdf; ComponentLink3Description: Package Specification; ComponentLink3URL: http://www.ti.com/litv/pdf/mpds094a
footprint TI-DCY4_N (SOT223, 4-Leads, Body 6.5x3.5mm, Pitch 2.3mm, IPC Medium Density)
footprint TI-DCY4_L (SOT223, 4-Leads, Body 6.5x3.5mm, Pitch 2.3mm, IPC High Density)
footprint TI-DCY4_M (SOT223, 4-Leads, Body 6.5x3.5mm, Pitch 2.3mm, IPC Low Density)
pins: 1 GND (power) "Ground pin", 2 OUT (power) "Regulated output voltage pin.", 3 IN (power) "Input pin.", 4 OUT (power) "Regulated output voltage pin."

## TLV1117LV28DCYR
designator U?
Single Output LDO, 1 A, Fixed 2.8 V Output, 2 to 5.5 V Input, 4-pin SOT-223 (DCY), -40 to 125 degC, Green (RoHS & no Sb/Br); Manufacturer: Texas Instruments; PartNumber: TLV1117LV28DCYR; Accuracy(%): 2; Fixed Output Options(V): 2.8; Iout(Max)(A): 1; Iq(Typ)(mA): 0.05; SubFamily: Single Channel LDO; Vdo(Typ)(mV): 1200; Vin(Max)(V): 5.5; DatasheetVersion: SBVS160A; PackageVersion: 4202506/B; PackageReference: DCY4; PackageDescription: 4-Pin Plastic Small Outline, Body 3.5 x 6.5 mm, Pitch 2.3 mm; Supplier 1: Digi-Key; Supplier Part Number 1: 296-30590-2-ND; Supplier 2: Digi-Key; Supplier Part Number 2: 296-30590-1-ND; Supplier 3: Digi-Key; Supplier Part Number 3: 296-30590-6-ND; Supplier 4: Newark; Supplier Part Number 4: 27W9628; Supplier 5: Mouser; Supplier Part Number 5: 595-TLV1117LV28DCYR; Eco-Plan: Green (RoHS & no Sb/Br); Vin(Min)(V): 2; Vout Adj(Max)(V): 2.8; Vout Adj(Min)(V): 2.8; Mounting Technology: Surface Mount; Code_JEDEC: TO-261; ComponentLink1Description: Manufacturer URL; ComponentLink1URL: http://www.ti.com/; ComponentLink2Description: Datasheet; ComponentLink2URL: http://www.ti.com/general/docs/lit/getliterature.tsp?genericPartNumber=TLV1117LV28&fileType=pdf; ComponentLink3Description: Package Specification; ComponentLink3URL: http://www.ti.com/litv/pdf/mpds094a
footprint TI-DCY4_N (SOT223, 4-Leads, Body 6.5x3.5mm, Pitch 2.3mm, IPC Medium Density)
footprint TI-DCY4_L (SOT223, 4-Leads, Body 6.5x3.5mm, Pitch 2.3mm, IPC High Density)
footprint TI-DCY4_M (SOT223, 4-Leads, Body 6.5x3.5mm, Pitch 2.3mm, IPC Low Density)
pins: 1 GND (power) "Ground pin", 2 OUT (power) "Regulated output voltage pin.", 3 IN (power) "Input pin.", 4 OUT (power) "Regulated output voltage pin."

## TLV1117LV28DCYT
designator U?
Single Output LDO, 1 A, Fixed 2.8 V Output, 2 to 5.5 V Input, 4-pin SOT-223 (DCY), -40 to 125 degC, Green (RoHS & no Sb/Br); Manufacturer: Texas Instruments; PartNumber: TLV1117LV28DCYT; Accuracy(%): 2; Fixed Output Options(V): 2.8; Iout(Max)(A): 1; Iq(Typ)(mA): 0.05; SubFamily: Single Channel LDO; Vdo(Typ)(mV): 1200; Vin(Max)(V): 5.5; DatasheetVersion: SBVS160A; PackageVersion: 4202506/B; PackageReference: DCY4; PackageDescription: 4-Pin Plastic Small Outline, Body 3.5 x 6.5 mm, Pitch 2.3 mm; Supplier 1: Digi-Key; Supplier Part Number 1: TLV1117LV28DCYT-ND; Supplier 2: Newark; Supplier Part Number 2: 27W9629; Supplier 3: Mouser; Supplier Part Number 3: 595-TLV1117LV28DCYT; Eco-Plan: Green (RoHS & no Sb/Br); Vin(Min)(V): 2; Vout Adj(Max)(V): 2.8; Vout Adj(Min)(V): 2.8; Mounting Technology: Surface Mount; Code_JEDEC: TO-261; ComponentLink1Description: Manufacturer URL; ComponentLink1URL: http://www.ti.com/; ComponentLink2Description: Datasheet; ComponentLink2URL: http://www.ti.com/general/docs/lit/getliterature.tsp?genericPartNumber=TLV1117LV28&fileType=pdf; ComponentLink3Description: Package Specification; ComponentLink3URL: http://www.ti.com/litv/pdf/mpds094a
footprint TI-DCY4_N (SOT223, 4-Leads, Body 6.5x3.5mm, Pitch 2.3mm, IPC Medium Density)
footprint TI-DCY4_L (SOT223, 4-Leads, Body 6.5x3.5mm, Pitch 2.3mm, IPC High Density)
footprint TI-DCY4_M (SOT223, 4-Leads, Body 6.5x3.5mm, Pitch 2.3mm, IPC Low Density)
pins: 1 GND (power) "Ground pin", 2 OUT (power) "Regulated output voltage pin.", 3 IN (power) "Input pin.", 4 OUT (power) "Regulated output voltage pin."

## TLV1117LV30DCYR
designator U?
Single Output LDO, 1 A, Fixed 3 V Output, 2 to 5.5 V Input, 4-pin SOT-223 (DCY), -40 to 125 degC, Green (RoHS & no Sb/Br); Manufacturer: Texas Instruments; PartNumber: TLV1117LV30DCYR; Accuracy(%): 2; Fixed Output Options(V): 3; Iout(Max)(A): 1; Iq(Typ)(mA): 0.05; SubFamily: Single Channel LDO; Vdo(Typ)(mV): 1200; Vin(Max)(V): 5.5; DatasheetVersion: SBVS160A; PackageVersion: 4202506/B; PackageReference: DCY4; PackageDescription: 4-Pin Plastic Small Outline, Body 3.5 x 6.5 mm, Pitch 2.3 mm; Supplier 1: Digi-Key; Supplier Part Number 1: 296-30591-2-ND; Supplier 2: Digi-Key; Supplier Part Number 2: 296-30591-1-ND; Supplier 3: Digi-Key; Supplier Part Number 3: 296-30591-6-ND; Supplier 4: Newark; Supplier Part Number 4: 27W9630; Supplier 5: Mouser; Supplier Part Number 5: 595-TLV1117LV30DCYR; Eco-Plan: Green (RoHS & no Sb/Br); Vin(Min)(V): 2; Vout Adj(Max)(V): 3; Vout Adj(Min)(V): 3; Mounting Technology: Surface Mount; Code_JEDEC: TO-261; ComponentLink1Description: Manufacturer URL; ComponentLink1URL: http://www.ti.com/; ComponentLink2Description: Datasheet; ComponentLink2URL: http://www.ti.com/general/docs/lit/getliterature.tsp?genericPartNumber=TLV1117LV30&fileType=pdf; ComponentLink3Description: Package Specification; ComponentLink3URL: http://www.ti.com/litv/pdf/mpds094a
footprint TI-DCY4_N (SOT223, 4-Leads, Body 6.5x3.5mm, Pitch 2.3mm, IPC Medium Density)
footprint TI-DCY4_L (SOT223, 4-Leads, Body 6.5x3.5mm, Pitch 2.3mm, IPC High Density)
footprint TI-DCY4_M (SOT223, 4-Leads, Body 6.5x3.5mm, Pitch 2.3mm, IPC Low Density)
pins: 1 GND (power) "Ground pin", 2 OUT (power) "Regulated output voltage pin.", 3 IN (power) "Input pin.", 4 OUT (power) "Regulated output voltage pin."

## TLV1117LV30DCYT
designator U?
Single Output LDO, 1 A, Fixed 3 V Output, 2 to 5.5 V Input, 4-pin SOT-223 (DCY), -40 to 125 degC, Green (RoHS & no Sb/Br); Manufacturer: Texas Instruments; PartNumber: TLV1117LV30DCYT; Accuracy(%): 2; Fixed Output Options(V): 3; Iout(Max)(A): 1; Iq(Typ)(mA): 0.05; SubFamily: Single Channel LDO; Vdo(Typ)(mV): 1200; Vin(Max)(V): 5.5; DatasheetVersion: SBVS160A; PackageVersion: 4202506/B; PackageReference: DCY4; PackageDescription: 4-Pin Plastic Small Outline, Body 3.5 x 6.5 mm, Pitch 2.3 mm; Supplier 1: Digi-Key; Supplier Part Number 1: 296-34848-2-ND; Supplier 2: Farnell; Supplier Part Number 2: 2214986; Supplier 3: Newark; Supplier Part Number 3: 45W6437; Supplier 4: Newark; Supplier Part Number 4: 27W9631; Supplier 5: Mouser; Supplier Part Number 5: 595-TLV1117LV30DCYT; Eco-Plan: Green (RoHS & no Sb/Br); Vin(Min)(V): 2; Vout Adj(Max)(V): 3; Vout Adj(Min)(V): 3; Mounting Technology: Surface Mount; Code_JEDEC: TO-261; ComponentLink1Description: Manufacturer URL; ComponentLink1URL: http://www.ti.com/; ComponentLink2Description: Datasheet; ComponentLink2URL: http://www.ti.com/general/docs/lit/getliterature.tsp?genericPartNumber=TLV1117LV30&fileType=pdf; ComponentLink3Description: Package Specification; ComponentLink3URL: http://www.ti.com/litv/pdf/mpds094a
footprint TI-DCY4_N (SOT223, 4-Leads, Body 6.5x3.5mm, Pitch 2.3mm, IPC Medium Density)
footprint TI-DCY4_L (SOT223, 4-Leads, Body 6.5x3.5mm, Pitch 2.3mm, IPC High Density)
footprint TI-DCY4_M (SOT223, 4-Leads, Body 6.5x3.5mm, Pitch 2.3mm, IPC Low Density)
pins: 1 GND (power) "Ground pin", 2 OUT (power) "Regulated output voltage pin.", 3 IN (power) "Input pin.", 4 OUT (power) "Regulated output voltage pin."

## TLV1117LV33DCYR
designator U?
Single Output LDO, 1 A, Fixed 3.3 V Output, 2 to 5.5 V Input, 4-pin SOT-223 (DCY), -40 to 125 degC, Green (RoHS & no Sb/Br); Manufacturer: Texas Instruments; PartNumber: TLV1117LV33DCYR; Accuracy(%): 2; Fixed Output Options(V): 3.3; Iout(Max)(A): 1; Iq(Typ)(mA): 0.05; SubFamily: Single Channel LDO; Vdo(Typ)(mV): 1200; Vin(Max)(V): 5.5; DatasheetVersion: SBVS160A; PackageVersion: 4202506/B; PackageReference: DCY4; PackageDescription: 4-Pin Plastic Small Outline, Body 3.5 x 6.5 mm, Pitch 2.3 mm; Supplier 1: Digi-Key; Supplier Part Number 1: 296-28778-2-ND; Supplier 2: Digi-Key; Supplier Part Number 2: 296-28778-1-ND; Supplier 3: Digi-Key; Supplier Part Number 3: 296-28778-6-ND; Supplier 4: Newark; Supplier Part Number 4: 48T4644; Supplier 5: Mouser; Supplier Part Number 5: 595-TLV1117LV33DCYR; Eco-Plan: Green (RoHS & no Sb/Br); Vin(Min)(V): 2; Vout Adj(Max)(V): 3.3; Vout Adj(Min)(V): 3.3; Mounting Technology: Surface Mount; Code_JEDEC: TO-261; ComponentLink1Description: Manufacturer URL; ComponentLink1URL: http://www.ti.com/; ComponentLink2Description: Datasheet; ComponentLink2URL: http://www.ti.com/general/docs/lit/getliterature.tsp?genericPartNumber=TLV1117LV33&fileType=pdf; ComponentLink3Description: Package Specification; ComponentLink3URL: http://www.ti.com/litv/pdf/mpds094a
footprint TI-DCY4_N (SOT223, 4-Leads, Body 6.5x3.5mm, Pitch 2.3mm, IPC Medium Density)
footprint TI-DCY4_L (SOT223, 4-Leads, Body 6.5x3.5mm, Pitch 2.3mm, IPC High Density)
footprint TI-DCY4_M (SOT223, 4-Leads, Body 6.5x3.5mm, Pitch 2.3mm, IPC Low Density)
pins: 1 GND (power) "Ground pin", 2 OUT (power) "Regulated output voltage pin.", 3 IN (power) "Input pin.", 4 OUT (power) "Regulated output voltage pin."